# Altium schematic symbol library C0603C225K8RACTU.SchLib: 1 symbol
Pins are listed as number, name and electrical type; pins without a type are passive.

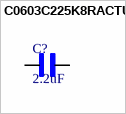
[diagram p0: symbol C0603C225K8RACTU]

## C0603C225K8RACTU
designator C?, comment 2.2uF
0603 C 2.2uF Ceramic Multilayer Capacitor, 10 VDC, +125degC, X7R Dielec, +/-10% | KEMET C0603C225K8RACTU; MP: C0603C225K8PACTU; SnapEDA_Link: https://www.snapeda.com/parts/C0603C225K8PACTU/KEMET/view-part/?ref=snap; Package: 0603 Kemet; Value: *; MF: KEMET; Check_prices: https://www.snapeda.com/parts/C0603C225K8PACTU/KEMET/view-part/?ref=eda
footprint C0603C225K8RACTU
pins: 1, 2